# Altium footprint library DIPbricks.PcbLib: 1 footprints
Each footprint in its own frame and in the unit in brackets; x right, y up, seen from the top. Pads: shape width x height; smd on the part's side, far side on the other; paste and mask are expansions set on the pad; w line width, h text height; cw(c..) or ccw(c..) is an arc to the next point about the centre after c.
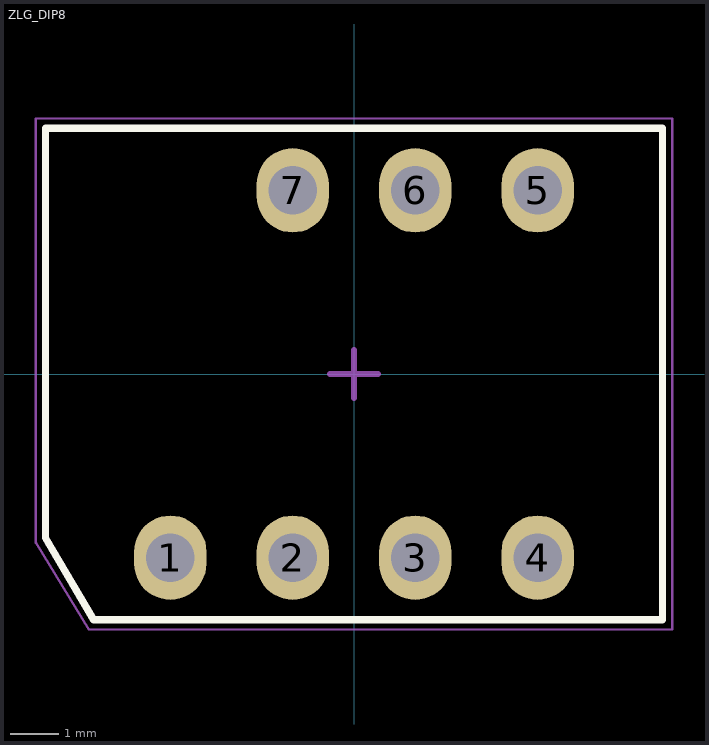
[diagram p0: the footprint, top view; thin cyan lines are the x and y axes]

## ZLG_DIP8 [mm]
pads (7):
  oval 1.5x1.75 hole 1: 1(-3.81,-3.81) 2(-1.27,-3.81) 3(1.27,-3.81) 4(3.81,-3.81) 5(3.81,3.81) 6(1.27,3.81) 7(-1.27,3.81)
Top Overlay:
  lines w0.152: -6.4,-3.4 -5.4,-5.1 6.4,-5.1 6.4,0 6.4,5.1 0,5.1 -6.4,5.1 -6.4,0 -6.4,-3.4
Mechanical 13:
  lines w0.127: -6.4,-3.4 -5.4,-5.1 6.4,-5.1 6.4,0 6.4,5.1 0,5.1 -6.4,5.1 -6.4,0 -6.4,-3.4
Mechanical 15:
  lines w0.05: -6.6,-3.5 -6.6,5.3 0,5.3 6.6,5.3 6.6,-5.3 2.4,-5.3 -4.8,-5.3 -5.5,-5.3 -6.6,-3.5
  lines w0.127: -0.5,0 0.5,0 ; 0,-0.5 0,0.5
3D body: height 7.7, standoff 0, extent -6.4,-5.1 6.4,5.1